# Altium footprint library Chip.PcbLib: 9 footprints
Each footprint in its own frame and in the unit in brackets; x right, y up, seen from the top. Pads: shape width x height; smd on the part's side, far side on the other; paste and mask are expansions set on the pad; w line width, h text height; cw(c..) or ccw(c..) is an arc to the next point about the centre after c.
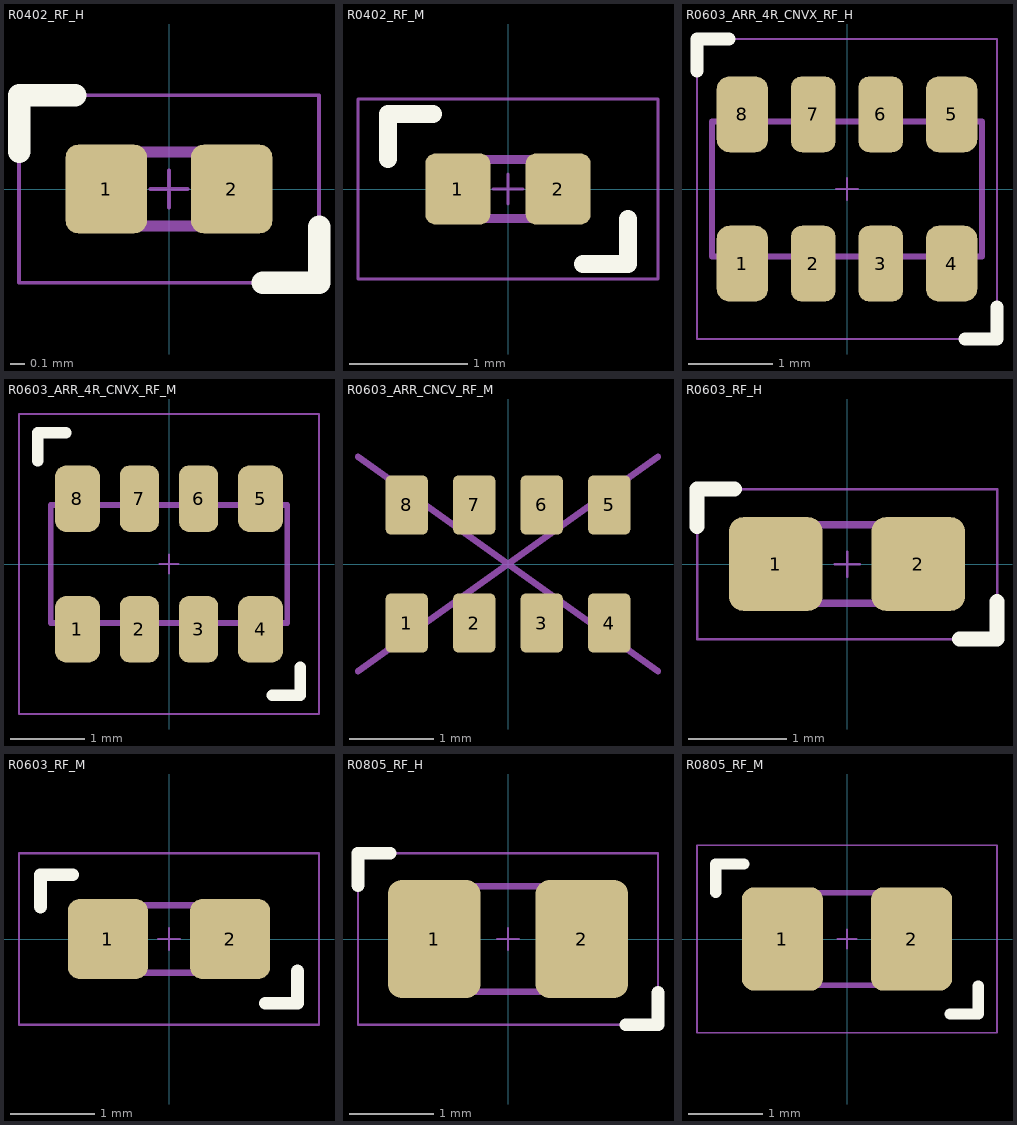
[diagram p0: the footprints below, top view; thin cyan lines are the x and y axes]

## R0402_RF_H [mm] "Resistor SMD 0402 Reflow High Density"
pads (2):
  rrect30% 0.55x0.6 smd: 1(-0.425,0) 2(0.425,0)
Top Overlay:
  lines w0.152: -1.016,0.254 -1.016,0.635 -0.635,0.635 ; 0.635,-0.635 1.016,-0.635 1.016,-0.254
Mechanical 13:
  lines w0.076: -0.5,-0.25 0.5,-0.25 0.5,0.25 -0.5,0.25 -0.5,-0.25
Mechanical 15:
  lines w0.025: -0.127,0 0.127,0 ; 0,-0.127 0,0.127 ; -1.016,-0.635 1.016,-0.635 1.016,0.635 -1.016,0.635 -1.016,-0.635
3D body "SMD_Resistor_0402_Panasonic.STEP": height 0.35, standoff 0, extent -0.5,-0.25 0.5,0.25

## R0402_RF_M [mm] "Resistor SMD 0402 Reflow Medium Density"
pads (2):
  rrect30% 0.55x0.6 smd: 1(-0.425,0) 2(0.425,0)
Top Overlay:
  lines w0.152: -1.016,0.254 -1.016,0.635 -0.635,0.635 ; 0.635,-0.635 1.016,-0.635 1.016,-0.254
Mechanical 13:
  lines w0.076: -0.5,-0.25 0.5,-0.25 0.5,0.25 -0.5,0.25 -0.5,-0.25
Mechanical 15:
  lines w0.025: -0.127,0 0.127,0 ; 0,-0.127 0,0.127 ; -1.27,-0.762 1.27,-0.762 1.27,0.762 -1.27,0.762 -1.27,-0.762
3D body "SMD_Resistor_0402_Panasonic.STEP": height 0.35, standoff 0, extent -0.5,-0.25 0.5,0.25

## R0603_ARR_4R_CNVX_RF_H [mm] "Resistor Array SMD 0603x4 Single 1206 ACAS Convex Lead Reflow High Density"
pads (8):
  rrect50% 0.61x0.9 smd: 1(-1.24,-0.885) 4(1.24,-0.885) 5(1.24,0.885) 8(-1.24,0.885)
  rrect50% 0.53x0.9 smd: 2(-0.4,-0.885) 3(0.4,-0.885) 6(0.4,0.885) 7(-0.4,0.885)
Top Overlay:
  lines w0.152: -1.778,1.397 -1.778,1.778 -1.397,1.778 ; 1.397,-1.778 1.778,-1.778 1.778,-1.397
Mechanical 13:
  lines w0.076: -1.6,-0.8 -1.6,0.8 1.6,0.8 1.6,-0.8 -1.6,-0.8
Mechanical 15:
  lines w0.025: -0.127,0 0.127,0 ; 0,-0.127 0,0.127 ; -1.778,-1.778 -1.778,1.778 1.778,1.778 1.778,-1.778 -1.778,-1.778
3D body "YC164-FR-0730K1L.STEP": height 0.71, standoff 0.01, extent -1.6,-0.8 1.6,0.8

## R0603_ARR_4R_CNVX_RF_M [mm] "Resistor Array SMD 0603x4 Single 1206 ACAS Convex Lead Reflow Medium Density"
pads (8):
  rrect50% 0.61x0.9 smd: 1(-1.24,-0.885) 4(1.24,-0.885) 5(1.24,0.885) 8(-1.24,0.885)
  rrect50% 0.53x0.9 smd: 2(-0.4,-0.885) 3(0.4,-0.885) 6(0.4,0.885) 7(-0.4,0.885)
Top Overlay:
  lines w0.152: -1.778,1.397 -1.778,1.778 -1.397,1.778 ; 1.397,-1.778 1.778,-1.778 1.778,-1.397
Mechanical 13:
  lines w0.076: -1.6,-0.8 1.6,-0.8 1.6,0.8 -1.6,0.8 -1.6,-0.8
Mechanical 15:
  lines w0.025: -0.127,0 0.127,0 ; 0,-0.127 0,0.127 ; -2.032,-2.032 2.032,-2.032 2.032,2.032 -2.032,2.032 -2.032,-2.032
3D body "YC164-FR-0730K1L.STEP": height 0.71, standoff 0.01, extent -1.6,-0.8 1.6,0.8

## R0603_ARR_CNCV_RF_M [mm] "Resistor Array SMD 0603 ACAC Concave Lead Reflow Medium Density"
pads (8):
  rrect25% 0.5x0.7 smd: 1(-1.2,-0.7) 2(-0.4,-0.7) 3(0.4,-0.7) 4(1.2,-0.7) 5(1.2,0.7) 6(0.4,0.7) 7(-0.4,0.7) 8(-1.2,0.7)
Mechanical 15:
  lines w0.076: -1.778,-1.27 1.778,1.27 ; -1.778,1.27 1.778,-1.27

## R0603_RF_H [mm] "Resistor SMD 0603 Reflow High Density"
pads (2):
  rrect30% 0.95x0.95 smd: 1(-0.725,0) 2(0.725,0)
Top Overlay:
  lines w0.152: -1.524,0.381 -1.524,0.762 -1.143,0.762 ; 1.143,-0.762 1.524,-0.762 1.524,-0.381
Mechanical 13:
  lines w0.076: -0.8,-0.4 0.8,-0.4 0.8,0.4 -0.8,0.4 -0.8,-0.4
Mechanical 15:
  lines w0.025: -0.127,0 0.127,0 ; 0,-0.127 0,0.127 ; -1.524,-0.762 -1.524,0.762 1.524,0.762 1.524,-0.762 -1.524,-0.762
3D body "Resistor_SMD_0603.step": height 0.45, standoff 0, extent -0.8,-0.4 0.8,0.4

## R0603_RF_M [mm] "Resistor SMD 0603 Reflow Medium Density"
pads (2):
  rrect30% 0.95x0.95 smd: 1(-0.725,0) 2(0.725,0)
Top Overlay:
  lines w0.152: -1.524,0.381 -1.524,0.762 -1.143,0.762 ; 1.143,-0.762 1.524,-0.762 1.524,-0.381
Mechanical 13:
  lines w0.076: -0.8,-0.4 0.8,-0.4 0.8,0.4 -0.8,0.4 -0.8,-0.4
Mechanical 15:
  lines w0.025: -0.127,0 0.127,0 ; 0,-0.127 0,0.127 ; -1.778,-1.016 -1.778,1.016 1.778,1.016 1.778,-1.016 -1.778,-1.016
3D body "Resistor_SMD_0603.step": height 0.45, standoff 0, extent -0.8,-0.4 0.8,0.4

## R0805_RF_H [mm] "Resistor SMD 0805 Reflow High Density"
pads (2):
  rrect30% 1.1x1.4 smd: 1(-0.875,0) 2(0.875,0)
Top Overlay:
  lines w0.152: -1.778,0.635 -1.778,1.016 -1.397,1.016 ; 1.397,-1.016 1.778,-1.016 1.778,-0.635
Mechanical 13:
  lines w0.076: -1,-0.625 1,-0.625 1,0.625 -1,0.625 -1,-0.625
Mechanical 15:
  lines w0.025: -0.127,0 0.127,0 ; 0,-0.127 0,0.127 ; -1.778,-1.016 1.778,-1.016 1.778,1.016 -1.778,1.016 -1.778,-1.016
3D body "Resistor_SMD_0805.step": height 0.6, standoff 0, extent -1,-0.625 1,0.625

## R0805_RF_M [mm] "Resistor SMD 0805 Reflow Medium Density"
pads (2):
  rrect30% 1.1x1.4 smd: 1(-0.875,0) 2(0.875,0)
Top Overlay:
  lines w0.152: -1.778,0.635 -1.778,1.016 -1.397,1.016 ; 1.397,-1.016 1.778,-1.016 1.778,-0.635
Mechanical 13:
  lines w0.076: -1,-0.625 -1,0.625 1,0.625 1,-0.625 -1,-0.625
Mechanical 15:
  lines w0.025: -0.127,0 0.127,0 ; 0,-0.127 0,0.127 ; -2.032,-1.27 -2.032,1.27 2.032,1.27 2.032,-1.27 -2.032,-1.27
3D body "Resistor_SMD_0805.step": height 0.6, standoff 0, extent -1,-0.625 1,0.625